# Altium footprint library SIP350W80P400L1450H1280Q4.PcbLib: 1 footprints
Each footprint in its own frame and in the unit in brackets; x right, y up, seen from the top. Pads: shape width x height; smd on the part's side, far side on the other; paste and mask are expansions set on the pad; w line width, h text height; cw(c..) or ccw(c..) is an arc to the next point about the centre after c.
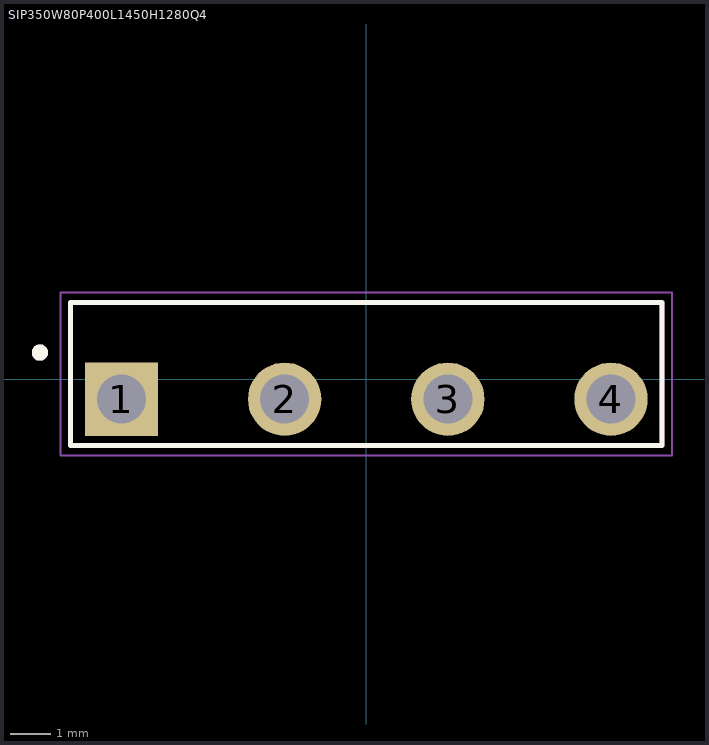
[diagram p0: the footprint, top view; thin cyan lines are the x and y axes]

## SIP350W80P400L1450H1280Q4 [mm]
pads (4):
  rect 1.8x1.8 / inner round 1.8 / far side rect 1.8x1.8 hole 1.2: 1(-6,-0.491)
  round 1.8 hole 1.2: 2(-2,-0.491) 3(2,-0.491) 4(6,-0.491)
Top Overlay:
  circle w0.2: c-8,0.652 r0.1
  lines w0.127: -7.25,-1.623 7.25,-1.623 7.25,1.877 -7.25,1.877 -7.25,-1.623
Mechanical 13:
  circle w0.2: c-8,0.652 r0.1
  lines w0.127: -7.25,-1.623 7.25,-1.623 7.25,1.877 -7.25,1.877 -7.25,-1.623
Mechanical 15:
  lines w0.05: -7.5,-1.873 -7.5,2.127 7.5,2.127 7.5,-1.873 -7.5,-1.873
3D body "step_temp.STEP": height 12.7, standoff -14.2, extent -7.35,-1.651 7.35,2.149